# Altium integrated library ADC_DAC adquisición datos.IntLib: 2 symbols
Pins are listed as number, name and electrical type; pins without a type are passive.

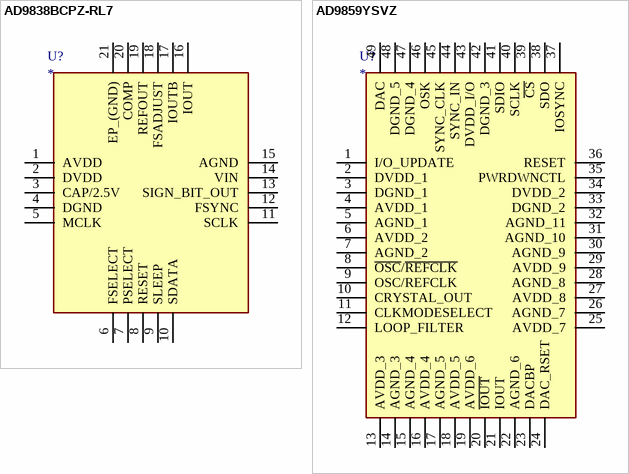
[diagram p0: symbols AD9838BCPZ-RL7 to AD9859YSVZ]

## AD9838BCPZ-RL7
designator U?
ComponentLink1Description: mouser; ComponentLink1URL: https://www.mouser.es/ProductDetail/Analog-Devices/AD9838BCPZ-RL7?qs=BpaRKvA4VqF91A%252BwrqYeJQ%3D%3D; datasheet: https://www.mouser.es/datasheet/2/609/AD9838-1502549.pdf
footprint QFN50P400X400X80-21N-D
pins: 1 AVDD, 2 DVDD, 3 CAP/2.5V, 4 DGND, 5 MCLK, 6 FSELECT, 7 PSELECT, 8 RESET, 9 SLEEP, 10 SDATA, 11 SCLK, 12 FSYNC, 13 SIGN_BIT_OUT, 14 VIN, 15 AGND, 16 IOUT, 17 IOUTB, 18 FSADJUST, 19 REFOUT, 20 COMP, 21 EP_(GND)

## AD9859YSVZ
designator U?
ComponentLink1Description: mouser; ComponentLink1URL: https://www.mouser.es/ProductDetail/Analog-Devices/AD9859YSVZ?qs=BpaRKvA4VqGPPuscfmiBVw%3D%3D; datasheet: https://www.mouser.es/datasheet/2/609/AD9859-1502705.pdf
footprint QFP50P900X900X120-49N
pins: 1 I/O_UPDATE, 2 DVDD_1, 3 DGND_1, 4 AVDD_1, 5 AGND_1, 6 AVDD_2, 7 AGND_2, 8 ~{OSC}/~{REFCLK}, 9 OSC/REFCLK, 10 CRYSTAL_OUT, 11 CLKMODESELECT, 12 LOOP_FILTER, 13 AVDD_3, 14 AGND_3, 15 AGND_4, 16 AVDD_4, 17 AGND_5, 18 AVDD_5, 19 AVDD_6, 20 ~{IOUT}, 21 IOUT, 22 AGND_6, 23 DACBP, 24 DAC_RSET, 25 AVDD_7, 26 AGND_7, 27 AVDD_8, 28 AGND_8, 29 AVDD_9, 30 AGND_9, 31 AGND_10, 32 AGND_11, 33 DGND_2, 34 DVDD_2, 35 PWRDWNCTL, 36 RESET, 37 IOSYNC, 38 SDO, 39 ~{CS}, 40 SCLK, 41 SDIO, 42 DGND_3, 43 DVDD_I/O, 44 SYNC_IN, 45 SYNC_CLK, 46 OSK, 47 DGND_4, 48 DGND_5, 49 DAC